# Altium integrated library THS4551IDGKT.IntLib: 1 symbol
Pins are listed as number, name and electrical type; pins without a type are passive.

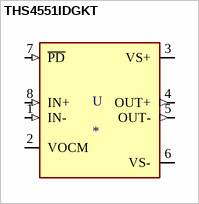
[diagram p0: symbol THS4551IDGKT]

## THS4551IDGKT
designator U
Differential Amplifier 1 Circuit Rail-to-Rail 8-VSSOP; MF: Texas Instruments; MP: THS4551IDGKT; Value: *; SnapEDA_Link: https://www.snapeda.com/parts/THS4551IDGKT/Texas%20Instruments/view-part/649050/?ref=snap; Availability: Unavailable; Package: MSOP-8 Texas Instruments; DigiKey-Purchase-URL: https://snapeda.com/shop?store=DigiKey&id=649050; Price: None
footprint SOP65P490X110-8N
pins: 1 IN- (in), 2 VOCM (power), 3 VS+ (power), 4 OUT+ (out), 5 OUT- (out), 6 VS- (power), 7 ~{PD} (in), 8 IN+ (in)